# Altium schematic symbol library Schlib1.SchLib: 13 symbols
Pins are listed as number, name and electrical type; pins without a type are passive.

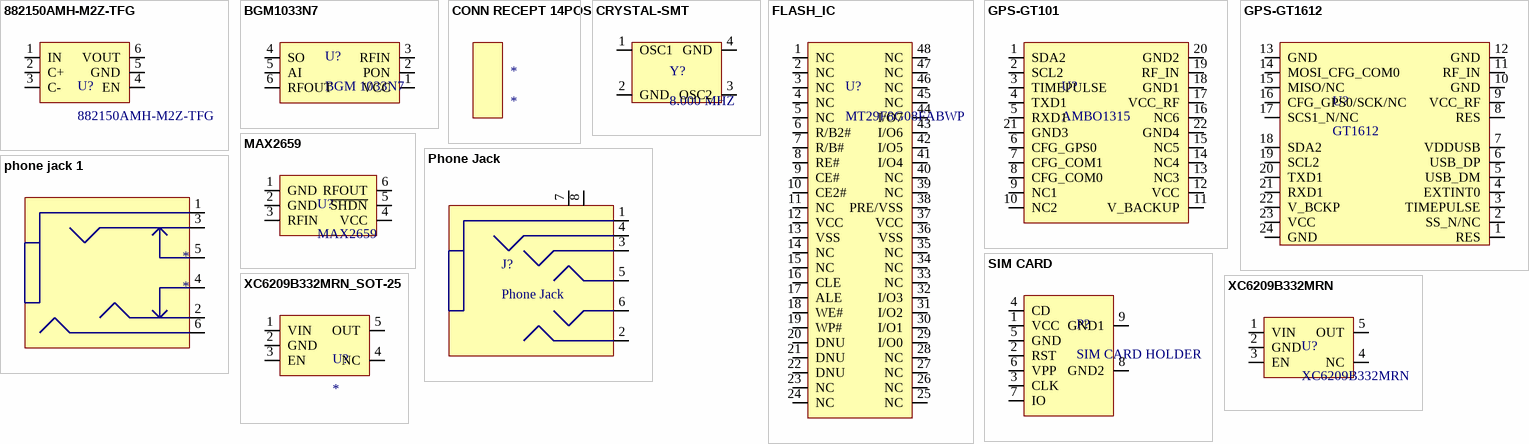
[diagram p0: symbols 882150AMH-M2Z-TFG to XC6209B332MRN_SOT-25]

## 882150AMH-M2Z-TFG
designator U?
pins: 1 IN, 2 C+, 3 C-, 4 EN, 5 GND, 6 VOUT

## BGM1033N7
designator U?, comment BGM 1033N7
Manufacturer: Infineon Technologies; Manufacturer Part Number: BGM 1033N7 E6327; Digi-Key Part Number: BGM 1033N7 E6327-ND; Unit Price: 0.80230
pins: 1 VCC, 2 PON, 3 RFIN, 4 SO, 5 AI, 6 RFOUT

## CONN RECEPT 14POS
designator *

## CRYSTAL-SMT
designator Y?, comment 8.000 MHZ
CRYSTAL 8.000 MHZ 18PF SMD; Manufacturer: TXC CORPORATION; Manufacturer Part Number: 7B-8.000MAAJ-T; Digi-Key Part Number: 887-1452-2-ND; Unit Price: 0.39000; Value: 8.000 MHZ
pins: 1 OSC1, 2 GND, 3 OSC2, 4 GND

## FLASH_IC
designator U?, comment MT29F8G08FABWP
FLAS IC 1G
pins: 1 NC, 2 NC, 3 NC, 4 NC, 5 NC, 6 R/B2#, 7 R/B#, 8 RE#, 9 CE#, 10 CE2#, 11 NC, 12 VCC, 13 VSS, 14 NC, 15 NC, 16 CLE, 17 ALE, 18 WE#, 19 WP#, 20 DNU, 21 DNU, 22 DNU, 23 NC, 24 NC, 25 NC, 26 NC, 27 NC, 28 NC, 29 I/O0, 30 I/O1, 31 I/O2, 32 I/O3, 33 NC, 34 NC, 35 NC, 36 VSS, 37 VCC, 38 PRE/VSS, 39 NC, 40 NC, 41 I/O4, 42 I/O5, 43 I/O6, 44 I/O7, 45 NC, 46 NC, 47 NC, 48 NC

## GPS-GT101
designator U?, comment AMBO1315
pins: 1 SDA2, 2 SCL2, 3 TIMEPULSE, 4 TXD1, 5 RXD1, 6 CFG_GPS0, 7 CFG_COM1, 8 CFG_COM0, 9 NC1, 10 NC2, 11 V_BACKUP, 12 VCC, 13 NC3, 14 NC4, 15 NC5, 16 NC6, 17 VCC_RF, 18 GND1, 19 RF_IN, 20 GND2, 21 GND3, 22 GND4

## GPS-GT1612
designator U?, comment GT1612
pins: 1 RES, 2 SS_N/NC, 3 TIMEPULSE, 4 EXTINT0, 5 USB_DM, 6 USB_DP, 7 VDDUSB, 8 RES, 9 VCC_RF, 10 GND, 11 RF_IN, 12 GND, 13 GND, 14 MOSI_CFG_COM0, 15 MISO/NC, 16 CFG_GPS0/SCK/NC, 17 SCS1_N/NC, 18 SDA2, 19 SCL2, 20 TXD1, 21 RXD1, 22 V_BCKP, 23 VCC, 24 GND

## MAX2659
designator U?
IC AMP LOW NOISE 6-UDFN; Manufacturer: Maxim Integrated; Manufacturer Part Number: MAX2659ELT+T; Digi-Key Part Number: MAX2659ELT+TTR-ND; Unit Price: 0.714
pins: 1 GND, 2 GND, 3 RFIN, 4 VCC, 5 ~{SHDN}, 6 RFOUT

## Phone Jack
designator J?
pins: 1, 2, 3, 4, 5, 6, 7, 8

## phone jack 1
designator *
pins: 1, 2, 3, 4, 5, 6

## SIM CARD
designator P?, comment SIM CARD HOLDER
pins: 1 VCC, 2 RST, 3 CLK, 4 CD, 5 GND, 6 VPP, 7 IO, 8 GND2, 9 GND1

## XC6209B332MRN
designator U?
pins: 1 VIN, 2 GND, 3 EN, 4 NC, 5 OUT

## XC6209B332MRN_SOT-25
designator U?
XC6209B332MRN_SOT-25
pins: 1 VIN, 2 GND, 3 EN, 4 NC, 5 OUT